# EAGLE library part MICRO-SD_BREAKOUT (library upra_lib4eagle)
Micro SD Card Breakout Board SPI port breakout board for SD Card. (Arduino Compatible) PINHEAD - Mounting with original pinheader (SD Card connector facing towards PCB) FLAT - Mounting with modified pinheader (Breakout PCB facing towards UPRA PCB)
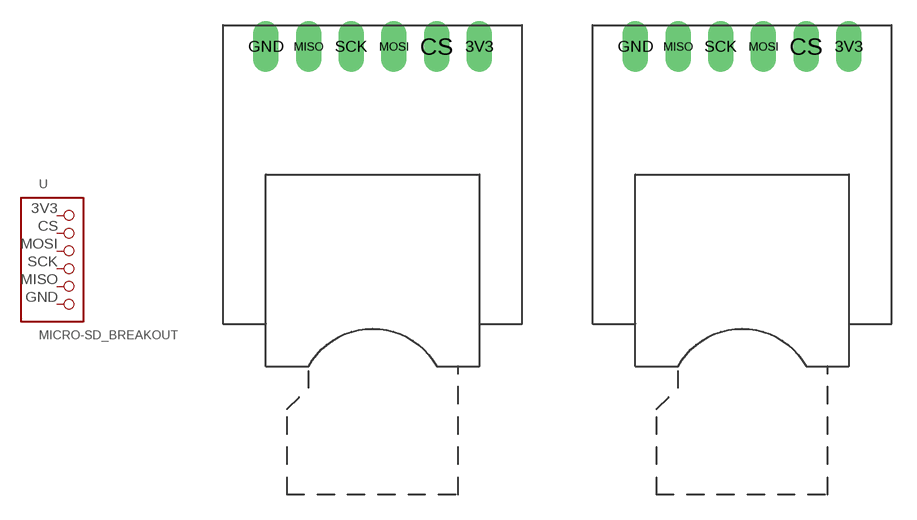
[diagram p5: symbol with the pads of MICRO-SD_BREAKOUT; footprints MICRO-SD_BREAKOUT, MICRO-SD_BREAKOUT_FLAT]

Designator prefix -

## MICRO-SD_BREAKOUT-PINHEAD  [MICRO-SD_BREAKOUT]
3V3  3V3
CS  CS
GND  GND
MISO  MISO
MOSI  MOSI
SCK  SCK

## MICRO-SD_BREAKOUT-FLAT  [MICRO-SD_BREAKOUT_FLAT]
Pads as for MICRO-SD_BREAKOUT

## Footprint MICRO-SD_BREAKOUT (pad centres in mm)
drill 1.016 long: 3V3 6.35,0; CS 3.81,0; GND -6.35,0; MISO -3.81,0; MOSI 1.27,0; SCK -1.27,0

## Footprint MICRO-SD_BREAKOUT_FLAT (pad centres in mm)
drill 1.016 long: 3V3 6.35,0; CS 3.81,0; GND -6.35,0; MISO -3.81,0; MOSI 1.27,0; SCK -1.27,0